# EAGLE library part M2106_B (library 000001)
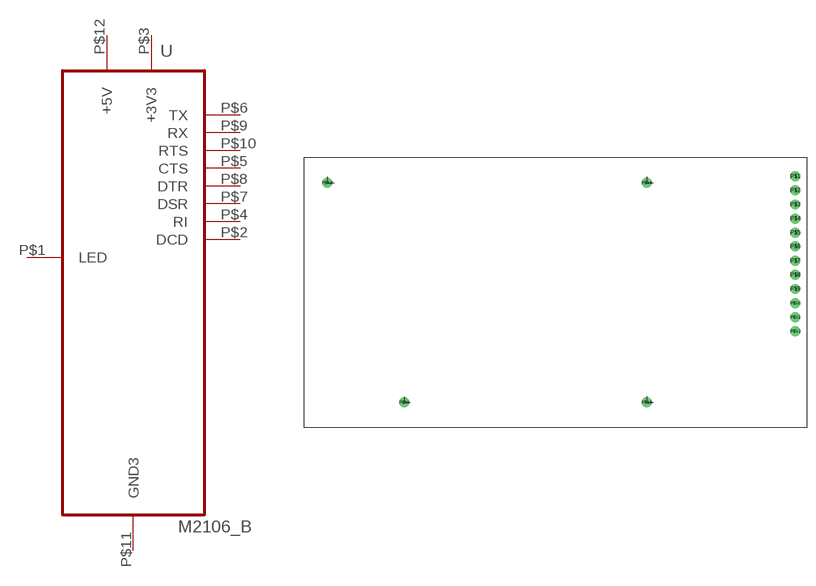
[diagram p74: symbol with the pads of 2106_PIG_B; footprint 2106_PIG_B]

Designator prefix -

## M2106_B  [2106_PIG_B]
P$1  LED  out
P$2  DCD  out
P$3  +3V3
P$4  RI  out
P$5  CTS  out
P$6  TX  in
P$7  DSR  out
P$8  DTR  in
P$9  RX  out
P$10  RTS  in
P$11  GND3  pwr
P$12  +5V  pwr

## Footprint 2106_PIG_B (pad centres in mm)
drill 0.5 pad 1.778 octagon: P$1 -1.092,-2.235
drill 0.5 pad 1.778 round: P$2 -1.092,-4.775; P$3 -1.092,-7.315; P$4 -1.092,-9.855; P$5 -1.092,-12.395; P$6 -1.092,-14.872; P$7 -1.092,-17.475; P$8 -1.092,-20.015; P$9 -1.092,-22.555; P$10 -1.092,-25.095; P$11 -1.092,-27.635; P$12 -1.092,-30.175; P$13 -85.56,-3.391; P$14 -27.902,-3.391; P$15 -27.902,-42.989; P$16 -71.628,-42.989